# EAGLE library part SFV10R-1STE1LF (library FCI-tkr)
FFC/FPC CONNECTOR, RECEPTACLE 10POS 1ROW
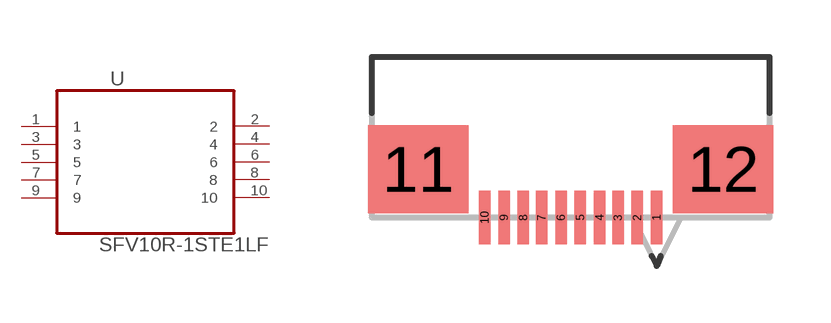
[diagram p42: symbol with the pads of FCI_SFV10R-1STE1LF; footprint FCI_SFV10R-1STE1LF]

Designator prefix U

## SFV10R-1STE1LF (MPN: SFV10R-1STE1LF; OC_FARNELL: -; OC_NEWARK: 68K5718; PACKAGE: CONNECTOR -10 POS; SUPPLIER: FCI)  [FCI_SFV10R-1STE1LF]
1  1  pas
2  2  pas
3  3  pas
4  4  pas
5  5  pas
6  6  pas
7  7  pas
8  8  pas
9  9  pas
10  10  pas

## Footprint FCI_SFV10R-1STE1LF (pad centres in mm)
smd 0.305 x 1.397: 1 2.261,2.083; 2 1.753,2.083; 3 1.245,2.083; 4 0.762,2.083; 5 0.254,2.083; 6 -0.254,2.083; 7 -0.762,2.083; 8 -1.245,2.083; 9 -1.753,2.083; 10 -2.261,2.083
smd 2.642 x 2.311: 11 -4.013,3.353; 12 4.013,3.353